# EAGLE library part DRV8832_DGQ_10 (library DRV8832_DGQ_10)
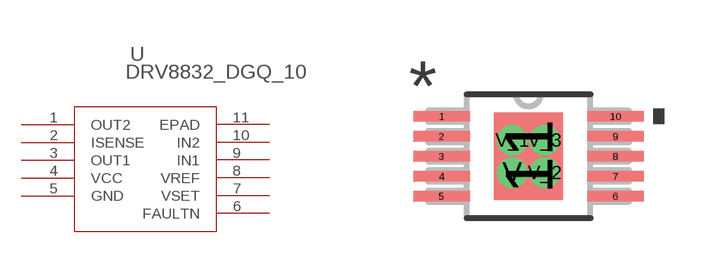
[diagram p0: symbol with the pads of DGQ10_2P18X1P72; footprint DGQ10_2P18X1P72]

Designator prefix U

## DRV8832_DGQ_10 (DATASHEETURL: httpwww.ti.comlitgpnDRV8832; FAMILY_NAME: BRUSHED DC DRIVER; GENERIC_PART_NUMBER: DRV8832; INDUSTRY_STD_PKG_TYPE: MSOPPowerPAD; MANUFACTURER: Texas Instruments; MANUFACTURER_PART_NUMBER: drv8832_dgq_10; PACKAGE_DESIGNATOR: DGQ; PIN_COUNT: 10; VENDOR: Texas Instruments)  [DGQ10_2P18X1P72]
1  OUT2  out
2  ISENSE
3  OUT1  out
4  VCC  pwr
5  GND  pwr
6  FAULTN  out
7  VSET  in
8  VREF  in
9  IN1
10  IN2  in
11  EPAD  pas

## Footprint DGQ10_2P18X1P72 (pad centres in mm)
smd 1.411 x 0.27: 1 -2.175,1; 2 -2.175,0.5; 3 -2.175,0; 4 -2.175,-0.5; 5 -2.175,-1; 6 2.175,-1; 7 2.175,-0.5; 8 2.175,0; 9 2.175,0.5; 10 2.175,1
smd 1.72 x 2.18: 11 0,0
drill 0.254 pad 0.508: V -0.406,-0.406; V_1 -0.406,0.406; V_2 0.406,-0.406; V_3 0.406,0.406